# Altium schematic symbol library connectors_other.SchLib: 16 symbols
Pins are listed as number, name and electrical type; pins without a type are passive.

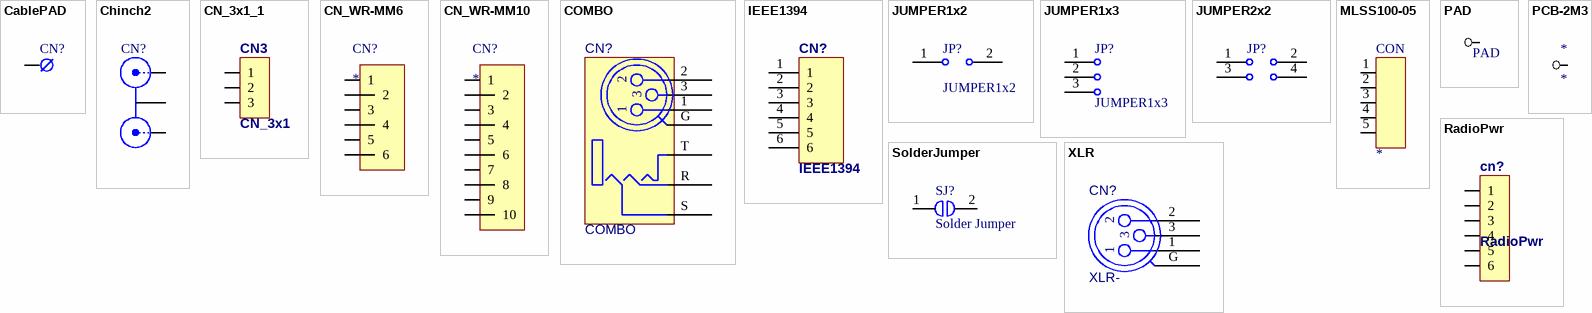
[diagram p0: symbols CablePAD to XLR]

## CablePAD
designator CN?  (no BOM)
Cable PAD; Published: 14-Sep-2006
footprint 3mm screw drill I
footprint 3mm screw drill II
footprint CablePad
footprint PAD0.8-2.0 (Cable soldering PAD)
footprint PAD1.5-4 (Cable soldering PAD)
footprint PAD2.54
pins: 1

## Chinch2
designator CN?
Chinch x2 Connector; Published: 28-Sep-2006
footprint JA020062
pins: 1 R, 2 L, 3 GND

## CN_3x1_1
designator CN3, comment CN_3x1
Nokia 6100 (BL5-CT) Battery Connector
footprint BL-5CT
pins: 1, 2, 3

## CN_WR-MM6
designator CN?
Wurth Elektronik 690367191072 6pin 2.54
footprint WR-MM6 (Wurth Elektronik 690367191072 6pin 2.54)
pins: 1, 2, 3, 4, 5, 6

## CN_WR-MM10
designator CN?
Wurth Elektronik 690367191072 10pin 2.54
footprint WR-MM10 (Wurth Elektronik 690367191072 10pin 2.54)
pins: 1, 2, 3, 4, 5, 6, 7, 8, 9, 10

## COMBO
designator CN?
XLR + JACK
footprint COMBO (COMB z Lucky600)
footprint NCJ6FI-H
pins: 1, 2, 3, G, R, S, T

## IEEE1394
designator CN?
footprint A-IEE-DIP-C (IEEE1394 vertical DIP connector)
pins: 1, 2, 3, 4, 5, 6

## JUMPER1x2
designator JP?
Jumper; Published: 19-Feb-2006
footprint GP_2x1
footprint faston4.8
pins: 1 COMMON1, 2 NO1

## JUMPER1x3
designator JP?
Jumper; Published: 20-Feb-2006
footprint GP_3x1
pins: 1 NO1, 2 COMMON, 3 NO2

## JUMPER2x2
designator JP?
Jumper; Published: 19-Feb-2006
footprint GP_2x2
pins: 1 COMMON1, 2 NO1, 3 COMMON2, 4 NO2

## MLSS100-05
designator CON
footprint MLSS100-05
pins: 1, 2, 3, 4, 5

## PAD
designator PAD  (value not drawn)  (no BOM)
footprint pad2.54
pins: 1

## PCB-2M3
designator *
footprint PCB-2M3
footprint PCB-2M3_hole
footprint pcb-2m3_3pin
pins: 1

## RadioPwr
designator cn?
footprint PCBComponent_1
pins: 1, 2, 3, 4, 5, 6

## SolderJumper
designator SJ?, comment Solder Jumper
pins: 1, 2

## XLR
designator CN?, comment XLR-
XLR-F/M
footprint XLR F [fi=24]
footprint XLR M [fi=24]
footprint XLR M [fi=24]
pins: 1, 2, 3, G